# EAGLE library part S-8261 (library epic)
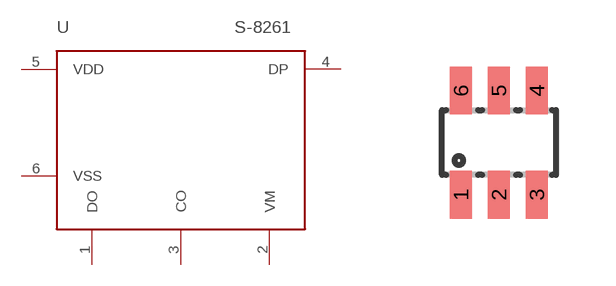
[diagram p31: symbol with the pads of SOT23-6; footprint SOT23-6]

Designator prefix U

## S-8261  [SOT23-6]
1  DO
2  VM
3  CO
4  DP
5  VDD
6  VSS

## Footprint SOT23-6 (pad centres in mm)
Small Outline Transistor
smd 0.55 x 1.2: 1 -0.95,-1.3; 2 0,-1.3; 3 0.95,-1.3; 4 0.95,1.3; 5 0,1.3; 6 -0.95,1.3